# Altium schematic symbol library WOLF-Adapter.SCHLIB: 139 symbols
Pins are listed as number, name and electrical type; pins without a type are passive.

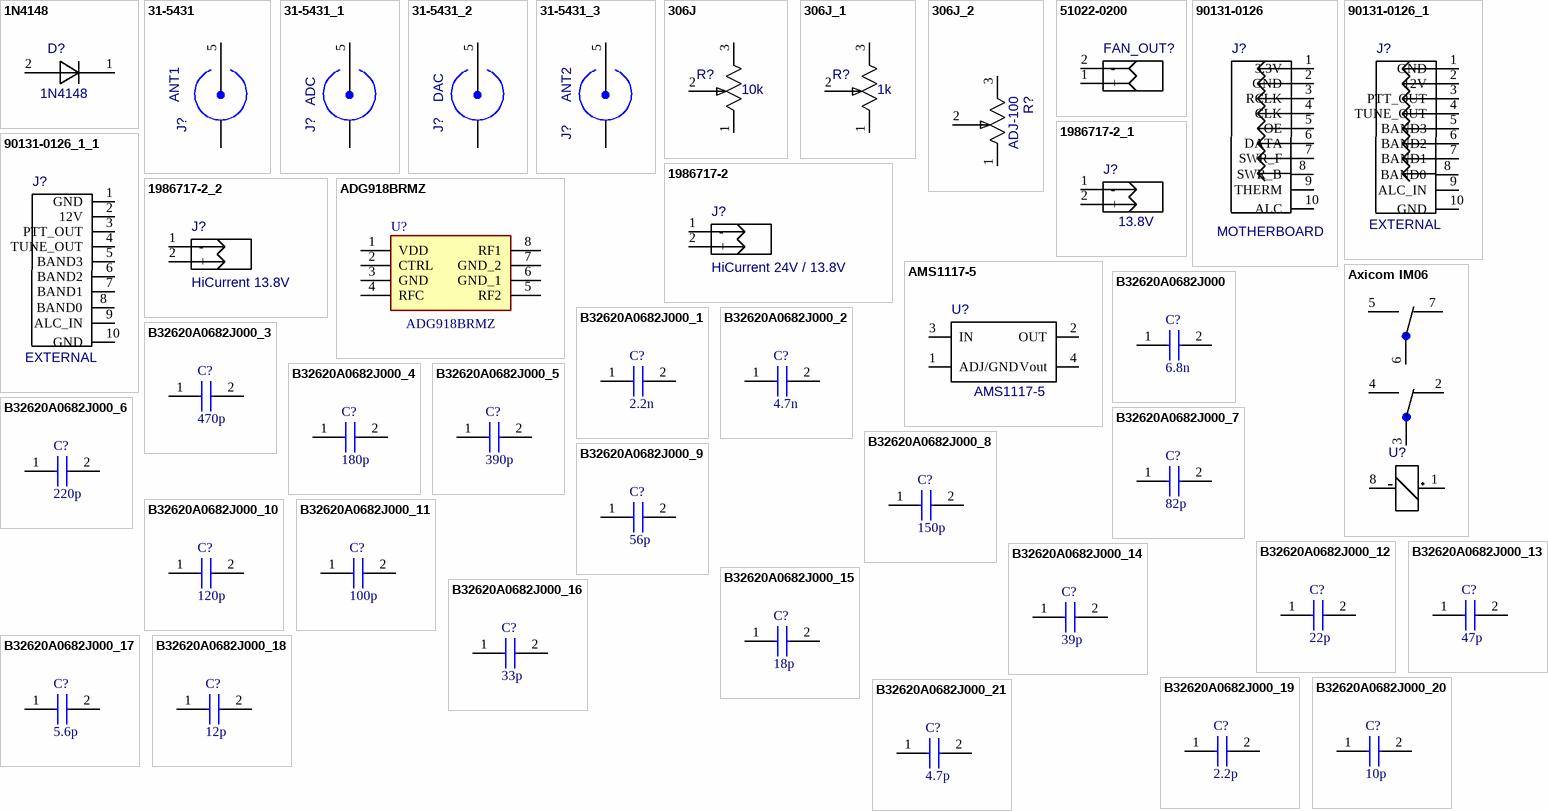
[diagram p0: symbols 1N4148 to B32620A0682J000_21]

## 1N4148
designator D?
Value: *
footprint SS14
pins: 1 K, 2 A

## 31-5431
designator J?, comment ANT1
SMA
footprint 1053354-1
footprint 31-5431
pins: 1 GND, 2 GND, 3 GND, 4 GND, 5 CON

## 31-5431_1
designator J?, comment ADC
SMA; Value: ADC
footprint 1053354-1
footprint 31-5431
pins: 1 GND, 2 GND, 3 GND, 4 GND, 5 CON

## 31-5431_2
designator J?, comment DAC
SMA; Value: DAC
footprint 1053354-1
footprint 31-5431
pins: 1 GND, 2 GND, 3 GND, 4 GND, 5 CON

## 31-5431_3
designator J?, comment ANT2
SMA
footprint 1053354-1
footprint 31-5431
pins: 1 GND, 2 GND, 3 GND, 4 GND, 5 CON

## 306J
designator R?, comment value 10k  (hidden comment: ADJ-10k)
306J
footprint 306J
pins: 1 CCW, 2 W, 3 CW

## 306J_1
designator R?, comment value 1k  (hidden comment: ADJ-1k)
306J
footprint 306J
pins: 1 CCW, 2 W, 3 CW

## 306J_2
designator R?, comment ADJ-100
306J
footprint 306J
pins: 1 CCW, 2 W, 3 CW

## 51022-0200
designator FAN_OUT?  (value not drawn)
footprint HDR-1x2T/2.54/5x2
footprint 51022-0200
pins: 1 +, 2 -

## 90131-0126
designator J?, comment MOTHERBOARD
2*5 PIN; Value: *
footprint 90131-0126
pins: 1 3.3V, 2 GND, 3 RCLK, 4 CLK, 5 OE, 6 DATA, 7 SWR_F, 8 SWR_B, 9 THERM, 10 ALC

## 90131-0126_1
designator J?, comment EXTERNAL
2*5 PIN; Value: *
footprint 90131-0126
pins: 1 GND, 2 12V, 3 PTT_OUT, 4 TUNE_OUT, 5 BAND3, 6 BAND2, 7 BAND1, 8 BAND0, 9 ALC_IN, 10 GND

## 90131-0126_1_1
designator J?, comment EXTERNAL
2*5 PIN; Value: *
footprint 90131-0126
pins: 1 GND, 2 12V, 3 PTT_OUT, 4 TUNE_OUT, 5 BAND3, 6 BAND2, 7 BAND1, 8 BAND0, 9 ALC_IN, 10 GND

## 1986717-2
designator J?, comment HiCurrent 24V / 13.8V
JX2
footprint TBH-1x2/3.81/8x3
footprint 1986717-2
pins: 1 -, 2 +

## 1986717-2_1
designator J?, comment value 13.8V  (hidden comment: JX2)
footprint TBH-1x2/3.81/8x3
footprint 1986717-2
pins: 1 -, 2 +

## 1986717-2_2
designator J?, comment HiCurrent 13.8V
JX2
footprint TBH-1x2/3.81/8x3
footprint 1986717-2
pins: 1 -, 2 +

## ADG918BRMZ
designator U?
Integrated Circuit; Manufacturer_Name: Analog Devices; Datasheet Link: http://www.analog.com/static/imported-files/data_sheets/ADG918_919.pdf; Height: 1.1mm; Manufacturer_Part_Number: ADG918BRMZ; Mouser Part Number: 584-ADG918BRMZ; Mouser Price/Stock: https://www.mouser.co.uk/ProductDetail/Analog-Devices/ADG918BRMZ?qs=BpaRKvA4VqHrp1TCwMhfnw%3D%3D; RS Part Number: 4969212P; RS Price/Stock: http://uk.rs-online.com/web/p/products/4969212P
footprint SOP65P490X110-8N
pins: 1 VDD (power), 2 CTRL, 3 GND (power), 4 RFC, 5 RF2, 6 GND_1 (power), 7 GND_2 (power), 8 RF1

## AMS1117-5
designator U?
Value: AMS1117-5
footprint SOT223-4
footprint AMS1117-5
pins: 1 ADJ/GND, 2 OUT, 3 IN, 4 Vout

## Axicom IM06
designator U?  (value not drawn)
Value: *
footprint IM06GR
pins: 1 +, 2 O, 3 P, 4 S, 5 S, 6 P, 7 O, 8 -

## B32620A0682J000
designator C?, comment 6.8n
Capacitor; Manufacturer_Name: TDK; Manufacturer_Part_Number: B32620A0682J000; Datasheet Link: https://www.tdk-electronics.tdk.com/inf/20/20/db/fc_2009/MKP_B32620_621.pdf; Height: 12mm; Mouser Part Number: 871-B32620A682J; Mouser Price/Stock: https://www.mouser.com/Search/Refine.aspx?Keyword=871-B32620A682J
footprint B32620A0682J000
pins: 1, 2

## B32620A0682J000_1
designator C?, comment 2.2n
Capacitor; Manufacturer_Name: TDK; Manufacturer_Part_Number: B32620A0682J000; Datasheet Link: https://www.tdk-electronics.tdk.com/inf/20/20/db/fc_2009/MKP_B32620_621.pdf; Height: 12mm; Mouser Part Number: 871-B32620A682J; Mouser Price/Stock: https://www.mouser.com/Search/Refine.aspx?Keyword=871-B32620A682J
footprint B32620A0682J000
pins: 1, 2

## B32620A0682J000_2
designator C?, comment 4.7n
Capacitor; Manufacturer_Name: TDK; Manufacturer_Part_Number: B32620A0682J000; Datasheet Link: https://www.tdk-electronics.tdk.com/inf/20/20/db/fc_2009/MKP_B32620_621.pdf; Height: 12mm; Mouser Part Number: 871-B32620A682J; Mouser Price/Stock: https://www.mouser.com/Search/Refine.aspx?Keyword=871-B32620A682J
footprint B32620A0682J000
pins: 1, 2

## B32620A0682J000_3
designator C?, comment 470p
Capacitor; Manufacturer_Name: TDK; Manufacturer_Part_Number: B32620A0682J000; Datasheet Link: https://www.tdk-electronics.tdk.com/inf/20/20/db/fc_2009/MKP_B32620_621.pdf; Height: 12mm; Mouser Part Number: 871-B32620A682J; Mouser Price/Stock: https://www.mouser.com/Search/Refine.aspx?Keyword=871-B32620A682J
footprint B32620A0682J000
pins: 1, 2

## B32620A0682J000_4
designator C?, comment 180p
Capacitor; Manufacturer_Name: TDK; Manufacturer_Part_Number: B32620A0682J000; Datasheet Link: https://www.tdk-electronics.tdk.com/inf/20/20/db/fc_2009/MKP_B32620_621.pdf; Height: 12mm; Mouser Part Number: 871-B32620A682J; Mouser Price/Stock: https://www.mouser.com/Search/Refine.aspx?Keyword=871-B32620A682J
footprint B32620A0682J000
pins: 1, 2

## B32620A0682J000_5
designator C?, comment 390p
Capacitor; Manufacturer_Name: TDK; Manufacturer_Part_Number: B32620A0682J000; Datasheet Link: https://www.tdk-electronics.tdk.com/inf/20/20/db/fc_2009/MKP_B32620_621.pdf; Height: 12mm; Mouser Part Number: 871-B32620A682J; Mouser Price/Stock: https://www.mouser.com/Search/Refine.aspx?Keyword=871-B32620A682J
footprint B32620A0682J000
pins: 1, 2

## B32620A0682J000_6
designator C?, comment 220p
Capacitor; Manufacturer_Name: TDK; Manufacturer_Part_Number: B32620A0682J000; Datasheet Link: https://www.tdk-electronics.tdk.com/inf/20/20/db/fc_2009/MKP_B32620_621.pdf; Height: 12mm; Mouser Part Number: 871-B32620A682J; Mouser Price/Stock: https://www.mouser.com/Search/Refine.aspx?Keyword=871-B32620A682J
footprint B32620A0682J000
pins: 1, 2

## B32620A0682J000_7
designator C?, comment 82p
Capacitor; Manufacturer_Name: TDK; Manufacturer_Part_Number: B32620A0682J000; Datasheet Link: https://www.tdk-electronics.tdk.com/inf/20/20/db/fc_2009/MKP_B32620_621.pdf; Height: 12mm; Mouser Part Number: 871-B32620A682J; Mouser Price/Stock: https://www.mouser.com/Search/Refine.aspx?Keyword=871-B32620A682J
footprint B32620A0682J000
pins: 1, 2

## B32620A0682J000_8
designator C?, comment 150p
Capacitor; Manufacturer_Name: TDK; Manufacturer_Part_Number: B32620A0682J000; Datasheet Link: https://www.tdk-electronics.tdk.com/inf/20/20/db/fc_2009/MKP_B32620_621.pdf; Height: 12mm; Mouser Part Number: 871-B32620A682J; Mouser Price/Stock: https://www.mouser.com/Search/Refine.aspx?Keyword=871-B32620A682J
footprint B32620A0682J000
pins: 1, 2

## B32620A0682J000_9
designator C?, comment 56p
Capacitor; Manufacturer_Name: TDK; Manufacturer_Part_Number: B32620A0682J000; Datasheet Link: https://www.tdk-electronics.tdk.com/inf/20/20/db/fc_2009/MKP_B32620_621.pdf; Height: 12mm; Mouser Part Number: 871-B32620A682J; Mouser Price/Stock: https://www.mouser.com/Search/Refine.aspx?Keyword=871-B32620A682J
footprint B32620A0682J000
pins: 1, 2

## B32620A0682J000_10
designator C?, comment 120p
Capacitor; Manufacturer_Name: TDK; Manufacturer_Part_Number: B32620A0682J000; Datasheet Link: https://www.tdk-electronics.tdk.com/inf/20/20/db/fc_2009/MKP_B32620_621.pdf; Height: 12mm; Mouser Part Number: 871-B32620A682J; Mouser Price/Stock: https://www.mouser.com/Search/Refine.aspx?Keyword=871-B32620A682J
footprint B32620A0682J000
pins: 1, 2

## B32620A0682J000_11
designator C?, comment 100p
Capacitor; Manufacturer_Name: TDK; Manufacturer_Part_Number: B32620A0682J000; Datasheet Link: https://www.tdk-electronics.tdk.com/inf/20/20/db/fc_2009/MKP_B32620_621.pdf; Height: 12mm; Mouser Part Number: 871-B32620A682J; Mouser Price/Stock: https://www.mouser.com/Search/Refine.aspx?Keyword=871-B32620A682J
footprint B32620A0682J000
pins: 1, 2

## B32620A0682J000_12
designator C?, comment 22p
Capacitor; Manufacturer_Name: TDK; Manufacturer_Part_Number: B32620A0682J000; Datasheet Link: https://www.tdk-electronics.tdk.com/inf/20/20/db/fc_2009/MKP_B32620_621.pdf; Height: 12mm; Mouser Part Number: 871-B32620A682J; Mouser Price/Stock: https://www.mouser.com/Search/Refine.aspx?Keyword=871-B32620A682J
footprint B32620A0682J000
pins: 1, 2

## B32620A0682J000_13
designator C?, comment 47p
Capacitor; Manufacturer_Name: TDK; Manufacturer_Part_Number: B32620A0682J000; Datasheet Link: https://www.tdk-electronics.tdk.com/inf/20/20/db/fc_2009/MKP_B32620_621.pdf; Height: 12mm; Mouser Part Number: 871-B32620A682J; Mouser Price/Stock: https://www.mouser.com/Search/Refine.aspx?Keyword=871-B32620A682J
footprint B32620A0682J000
pins: 1, 2

## B32620A0682J000_14
designator C?, comment 39p
Capacitor; Manufacturer_Name: TDK; Manufacturer_Part_Number: B32620A0682J000; Datasheet Link: https://www.tdk-electronics.tdk.com/inf/20/20/db/fc_2009/MKP_B32620_621.pdf; Height: 12mm; Mouser Part Number: 871-B32620A682J; Mouser Price/Stock: https://www.mouser.com/Search/Refine.aspx?Keyword=871-B32620A682J
footprint B32620A0682J000
pins: 1, 2

## B32620A0682J000_15
designator C?, comment 18p
Capacitor; Manufacturer_Name: TDK; Manufacturer_Part_Number: B32620A0682J000; Datasheet Link: https://www.tdk-electronics.tdk.com/inf/20/20/db/fc_2009/MKP_B32620_621.pdf; Height: 12mm; Mouser Part Number: 871-B32620A682J; Mouser Price/Stock: https://www.mouser.com/Search/Refine.aspx?Keyword=871-B32620A682J
footprint B32620A0682J000
pins: 1, 2

## B32620A0682J000_16
designator C?, comment 33p
Capacitor; Manufacturer_Name: TDK; Manufacturer_Part_Number: B32620A0682J000; Datasheet Link: https://www.tdk-electronics.tdk.com/inf/20/20/db/fc_2009/MKP_B32620_621.pdf; Height: 12mm; Mouser Part Number: 871-B32620A682J; Mouser Price/Stock: https://www.mouser.com/Search/Refine.aspx?Keyword=871-B32620A682J
footprint B32620A0682J000
pins: 1, 2

## B32620A0682J000_17
designator C?, comment 5.6p
Capacitor; Manufacturer_Name: TDK; Manufacturer_Part_Number: B32620A0682J000; Datasheet Link: https://www.tdk-electronics.tdk.com/inf/20/20/db/fc_2009/MKP_B32620_621.pdf; Height: 12mm; Mouser Part Number: 871-B32620A682J; Mouser Price/Stock: https://www.mouser.com/Search/Refine.aspx?Keyword=871-B32620A682J
footprint B32620A0682J000
pins: 1, 2

## B32620A0682J000_18
designator C?, comment 12p
Capacitor; Manufacturer_Name: TDK; Manufacturer_Part_Number: B32620A0682J000; Datasheet Link: https://www.tdk-electronics.tdk.com/inf/20/20/db/fc_2009/MKP_B32620_621.pdf; Height: 12mm; Mouser Part Number: 871-B32620A682J; Mouser Price/Stock: https://www.mouser.com/Search/Refine.aspx?Keyword=871-B32620A682J
footprint B32620A0682J000
pins: 1, 2

## B32620A0682J000_19
designator C?, comment 2.2p
Capacitor; Manufacturer_Name: TDK; Manufacturer_Part_Number: B32620A0682J000; Datasheet Link: https://www.tdk-electronics.tdk.com/inf/20/20/db/fc_2009/MKP_B32620_621.pdf; Height: 12mm; Mouser Part Number: 871-B32620A682J; Mouser Price/Stock: https://www.mouser.com/Search/Refine.aspx?Keyword=871-B32620A682J
footprint B32620A0682J000
pins: 1, 2

## B32620A0682J000_20
designator C?, comment 10p
Capacitor; Manufacturer_Name: TDK; Manufacturer_Part_Number: B32620A0682J000; Datasheet Link: https://www.tdk-electronics.tdk.com/inf/20/20/db/fc_2009/MKP_B32620_621.pdf; Height: 12mm; Mouser Part Number: 871-B32620A682J; Mouser Price/Stock: https://www.mouser.com/Search/Refine.aspx?Keyword=871-B32620A682J
footprint B32620A0682J000
pins: 1, 2

## B32620A0682J000_21
designator C?, comment 4.7p
Capacitor; Manufacturer_Name: TDK; Manufacturer_Part_Number: B32620A0682J000; Datasheet Link: https://www.tdk-electronics.tdk.com/inf/20/20/db/fc_2009/MKP_B32620_621.pdf; Height: 12mm; Mouser Part Number: 871-B32620A682J; Mouser Price/Stock: https://www.mouser.com/Search/Refine.aspx?Keyword=871-B32620A682J
footprint B32620A0682J000
pins: 1, 2

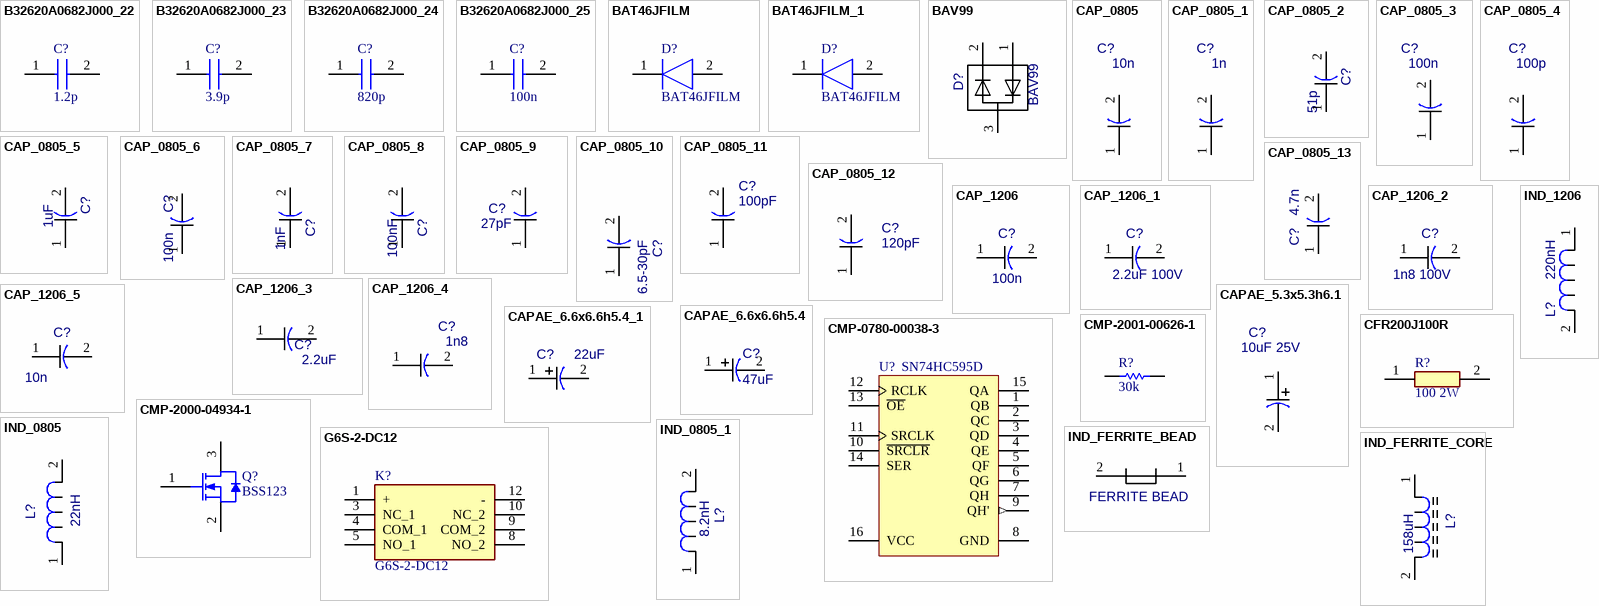
[diagram p1: symbols B32620A0682J000_22 to IND_FERRITE_CORE]

## B32620A0682J000_22
designator C?, comment 1.2p
Capacitor; Manufacturer_Name: TDK; Manufacturer_Part_Number: B32620A0682J000; Datasheet Link: https://www.tdk-electronics.tdk.com/inf/20/20/db/fc_2009/MKP_B32620_621.pdf; Height: 12mm; Mouser Part Number: 871-B32620A682J; Mouser Price/Stock: https://www.mouser.com/Search/Refine.aspx?Keyword=871-B32620A682J
footprint B32620A0682J000
pins: 1, 2

## B32620A0682J000_23
designator C?, comment 3.9p
Capacitor; Manufacturer_Name: TDK; Manufacturer_Part_Number: B32620A0682J000; Datasheet Link: https://www.tdk-electronics.tdk.com/inf/20/20/db/fc_2009/MKP_B32620_621.pdf; Height: 12mm; Mouser Part Number: 871-B32620A682J; Mouser Price/Stock: https://www.mouser.com/Search/Refine.aspx?Keyword=871-B32620A682J
footprint B32620A0682J000
pins: 1, 2

## B32620A0682J000_24
designator C?, comment 820p
Capacitor; Manufacturer_Name: TDK; Manufacturer_Part_Number: B32620A0682J000; Datasheet Link: https://www.tdk-electronics.tdk.com/inf/20/20/db/fc_2009/MKP_B32620_621.pdf; Height: 12mm; Mouser Part Number: 871-B32620A682J; Mouser Price/Stock: https://www.mouser.com/Search/Refine.aspx?Keyword=871-B32620A682J
footprint B32620A0682J000
pins: 1, 2

## B32620A0682J000_25
designator C?, comment 100n
Capacitor; Manufacturer_Name: TDK; Manufacturer_Part_Number: B32620A0682J000; Datasheet Link: https://www.tdk-electronics.tdk.com/inf/20/20/db/fc_2009/MKP_B32620_621.pdf; Height: 12mm; Mouser Part Number: 871-B32620A682J; Mouser Price/Stock: https://www.mouser.com/Search/Refine.aspx?Keyword=871-B32620A682J
footprint B32620A0682J000
pins: 1, 2

## BAT46JFILM
designator D?
Diode; Manufacturer_Name: STMicroelectronics; Allied_Number: 70389791; Datasheet Link: http://www.st.com/web/en/resource/technical/document/datasheet/CD00004930.pdf; Height: 1.17mm; Manufacturer_Part_Number: BAT46JFILM; Mouser Part Number: 511-BAT46JFILM; Mouser Price/Stock: https://www.mouser.co.uk/ProductDetail/STMicroelectronics/BAT46JFILM?qs=69%252BgXnvv5lrVjJqgcSQKbQ%3D%3D; RS Part Number: 7146847P; RS Price/Stock: http://uk.rs-online.com/web/p/products/7146847P; Allied Price/Stock: http://www.alliedelec.com/stmicroelectronics-bat46jfilm/70389791/
footprint SOD2513X117N
pins: 1 K, 2 A

## BAT46JFILM_1
designator D?, comment BAT46JFILM
Diode; Manufacturer_Name: STMicroelectronics; Allied_Number: 70389791; Datasheet Link: http://www.st.com/web/en/resource/technical/document/datasheet/CD00004930.pdf; Height: 1.17mm; Manufacturer_Part_Number: BAT46JFILM; Mouser Part Number: 511-BAT46JFILM; Mouser Price/Stock: https://www.mouser.co.uk/ProductDetail/STMicroelectronics/BAT46JFILM?qs=69%252BgXnvv5lrVjJqgcSQKbQ%3D%3D; RS Part Number: 7146847P; RS Price/Stock: http://uk.rs-online.com/web/p/products/7146847P; Allied Price/Stock: http://www.alliedelec.com/stmicroelectronics-bat46jfilm/70389791/
footprint SOD2513X117N
pins: 1 K, 2 A

## BAV99
designator D?
Value: BAV99
footprint SOT23
pins: 1 A(D1), 2 C(D2), 3 C(D1),A(D2)

## CAP_0805
designator C?, comment 10n
CAP_0805; Value: 10n
footprint 6-0805_M (Chip Resistor, Body 2.0x1.2mm, IPC Low Density)
pins: 1, 2

## CAP_0805_1
designator C?, comment 1n
CAP_0805; Value: 1n
footprint 6-0805_M (Chip Resistor, Body 2.0x1.2mm, IPC Low Density)
pins: 1, 2

## CAP_0805_2
designator C?, comment 51p
CAP_0805
footprint CAP_0805
pins: 1, 2

## CAP_0805_3
designator C?, comment 100n
CAP_0805; Value: 100n
footprint CAP_0805
pins: 1, 2

## CAP_0805_4
designator C?, comment 100p
CAP_0805; Value: 100p
footprint 6-0805_M (Chip Resistor, Body 2.0x1.2mm, IPC Low Density)
pins: 1, 2

## CAP_0805_5
designator C?, comment 1uF
CAP_0805; Value: 1uF
footprint CAP_0805
pins: 1, 2

## CAP_0805_6
designator C?, comment 100n
CAP_0805
footprint CAP_0805
pins: 1, 2

## CAP_0805_7
designator C?, comment 1nF
CAP_0805; Value: 1nF
footprint CAP_0805
pins: 1, 2

## CAP_0805_8
designator C?, comment 100nF
CAP_0805; Value: 100nF
footprint CAP_0805
pins: 1, 2

## CAP_0805_9
designator C?, comment 27pF
CAP_0805
footprint CAP_0805
pins: 1, 2

## CAP_0805_10
designator C?, comment 6.5-30pF
TZC3P300A110; Value: 6.5-30pF
footprint CAP_1206
footprint 5025[2010]
pins: 1, 2

## CAP_0805_11
designator C?, comment 100pF
CAP_0805; Value: 100pF
footprint CAP_0805
pins: 1, 2

## CAP_0805_12
designator C?, comment 120pF
CAP_0805; Value: 120pF
footprint CAP_0805
pins: 1, 2

## CAP_0805_13
designator C?, comment 4.7n
CAP_0805
footprint CAP_0805
pins: 1, 2

## CAP_1206
designator C?, comment 100n
CAP_1206
footprint CAP_1206
pins: 1, 2

## CAP_1206_1
designator C?, comment 2.2uF 100V
CAP_1206; Value: 2.2uF 100V
footprint CAP_1206
pins: 1, 2

## CAP_1206_2
designator C?, comment 1n8 100V
CAP_1206; Value: 1n8 100V
footprint CAP_1206
pins: 1, 2

## CAP_1206_3
designator C?, comment 2.2uF
CAP_1206
footprint CAP_1206
pins: 1, 2

## CAP_1206_4
designator C?, comment 1n8
CAP_1206
footprint CAP_1206
pins: 1, 2

## CAP_1206_5
designator C?, comment 10n
CAP_1206
footprint CAP_1206
pins: 1, 2

## CAPAE_5.3x5.3h6.1
designator C?, comment 10uF 25V
CAPAE_5.3x5.3h6.1; Value: 10uF 25V
footprint TC_2413
footprint CAPAE_5.3x5.3h6.1
pins: 1 PLUS, 2 MINUS

## CAPAE_6.6x6.6h5.4
designator C?, comment 47uF
CAPAE_6.6x6.6h5.4; Value: 47uF
footprint CAPAE-6.6x6.6h5.4
footprint CAPAE_6.6x6.6h5.4
pins: 1 PLUS, 2 MINUS

## CAPAE_6.6x6.6h5.4_1
designator C?, comment 22uF
CAPAE_6.6x6.6h5.4
footprint CAPAE-6.6x6.6h5.4
footprint CAPAE_6.6x6.6h5.4
pins: 1 PLUS, 2 MINUS

## CFR200J100R
designator R?, comment 100 2W
CFR200J100R; Manufacturer_Name: TE Connectivity; Datasheet Link: http://www.te.com/commerce/DocumentDelivery/DDEController?Action=showdoc&DocId=Data+Sheet%7F1773195%7FE%7Fpdf%7FEnglish%7FENG_DS_1773195_E.pdf%7F1623929-2; Manufacturer_Part_Number: CFR200J100R; Mouser Part Number: 279-CFR200J100R; Mouser Price/Stock: https://www.mouser.com/Search/Refine.aspx?Keyword=279-CFR200J100R; Arrow Part Number: CFR200J100R; Arrow Price/Stock: https://www.arrow.com/en/products/cfr200j100r/te-connectivity
footprint RES-2W
pins: 1, 2

## CMP-0780-00038-3
designator U?, comment SN74HC595D
8-Bit Shift Registers With 3-State Output Registers, D0016A, TUBE; Manufacturer: Texas Instruments; Bits: 8; F @ Nom Voltage(Max)(Mhz): 28; Voltage(Nom)(V): 6; ICC @ Nom Voltage(Max)(mA): 0.08; Output Drive (IOL/IOH)(Max)(mA): 7.8/-7.8; tpd @ Nom Voltage(Max)(ns): 34; 3-State Output: Yes; VCC(Min)(V): 2; Output Type: CMOS; Technology Family: HC; Rating: Military; Generic Part Number: SN74HC595; PackageReference: D0016A; Code_JEDEC: MS-012 variation AC; Operating Temperature Range(C): -40 to 85; VCC(Max)(V): 6; DatasheetVersion: SCLS041H; Input Type: CMOS; PackageVersion: http://www.ti.com/lit/ml/mpds178g/mpds178g.pdf; Manufacturer Part Number: SN74HC595D
footprint D0016A_L (SOIC, 16-Leads, Body 10x4mm, Pitch 1.27mm, IPC High Density)
footprint D0016A_M (SOIC, 16-Leads, Body 10x4mm, Pitch 1.27mm, IPC Low Density)
footprint D0016A_N (SOIC, 16-Leads, Body 10x4mm, Pitch 1.27mm, IPC Medium Density)
pins: 1 QB (hiz) "QB Output", 2 QC (hiz) "QC Output", 3 QD (hiz) "QD Output", 4 QE (hiz) "QE Output", 5 QF (hiz) "QF Output", 6 QG (hiz) "QG Output", 7 QH (hiz) "QH Output", 8 GND (power) "Ground Pin", 9 QH' (out) "QH' Output", 10 ~{SRCLR} "S\R\C\L\R\ Input", 11 SRCLK "SRCLK Input", 12 RCLK "RCLK Input", 13 ~{OE} "Output Enable Pin", 14 SER "SER Input", 15 QA (hiz) "QA Output", 16 VCC (power) "Power Pin"

## CMP-2000-04934-1
designator Q?, comment BSS123
N-Channel Logic Level Enhancement Mode Field Effect Transistor, 1.7 V, -55 to 150 degC, 3-Pin SOT-23, RoHS, Tape and Reel; Manufacturer: Fairchild; Manufacturer: ON Semiconductor / Fairchild; Channel Type: N; Typical Turn-Off Delay Time: 17ns; Maximum Continuous Drain Current: 0.17A; Rad Hard: No; Typical Rise Time: 9ns; Typical Fall Time: 2.4ns; Maximum Gate Source Voltage: ±20V; Maximum Drain Source Voltage: 100V; Typical Turn-On Delay Time: 1.7ns; RDS-on: 6000@10VmOhm; Package Version: Rev. 12, 03/2016; Packaging: Tape&Reel; Package Reference: SOT23-3; Channel Mode: Enhancement; Operating Temperature: -55to150degC; Package Description: 3-Pin Small Outline Transistor, Body 2.92 x 1.325 mm, Pitch 0.95 mm; Category: MOSFET; Datasheet Version: Jun-03; Datasheet URL: https://www.fairchildsemi.com/datasheets/BS/BSS123.pdf; Manufacturer URL: https://www.fairchildsemi.com/; Mounting: SurfaceMount; Package: 3SOT-23; Package URL: http://www.fairchildsemi.com/dwg/MA/MA03D.pdf; Manufacturer Part Number: BSS123
footprint FAIR-SOT23-3_V (SOT23, 3-Leads, Body 2.92x1.3mm, Pitch 0.95mm)
pins: 1 G, 2 S, 3 D

## CMP-2001-00626-1
designator R?, comment 30k
RES_0805; Manufacturer: Panasonic; Part Number: ERA-6AEB303V; Manufacturer Part Number: ERA-6AEB303V
footprint RESC2013X60X40NL20T25 (Chip Resistor, 2-Leads, Body 2.00x1.25mm, IPC Medium Density)
footprint RESC2013X60X40LL20T25 (Chip Resistor, 2-Leads, Body 2.00x1.25mm, IPC High Density)
footprint RESC2013X60X40ML20T25 (Chip Resistor, 2-Leads, Body 2.00x1.25mm, IPC Low Density)
pins: 1, 2
1 alternate drawing of the same symbol

## G6S-2-DC12
designator K?
Relay or Contactor; Manufacturer_Name: Omron Electronics; Datasheet Link: https://componentsearchengine.com/Datasheets/1/G6S-2-DC12.pdf; Height: 9.4mm; Manufacturer_Part_Number: G6S-2-DC12; Mouser Part Number: 653-G6S-2-DC12A; Mouser Price/Stock: https://www.mouser.co.uk/ProductDetail/Omron-Electronics/G6S-2-DC12/?qs=QGk6feVlqMLN9Ouv0QsFzA%3D%3D
footprint G6S2DC12
pins: 1 +, 3 NC_1, 4 COM_1, 5 NO_1, 8 NO_2, 9 COM_2, 10 NC_2, 12 -

## IND_0805
designator L?, comment 22nH
IND_0805
footprint IND_0805
pins: 1, 2

## IND_0805_1
designator L?, comment 8.2nH
IND_0805; Value: 8.2nH
footprint IND_0805
pins: 1, 2

## IND_1206
designator L?, comment 220nH
IND_1206; Value: 220nH
footprint IND_1206
pins: 1 2, 2 1

## IND_FERRITE_BEAD
designator F?, comment FERRITE BEAD
IND_FERRITE_BEAD; Value: *
footprint RES
pins: 1, 2

## IND_FERRITE_CORE
designator L?, comment 158uH
Inductor
footprint B82464Z4
footprint IND_FERRITE_CORE_1
pins: 1 A, 2 B

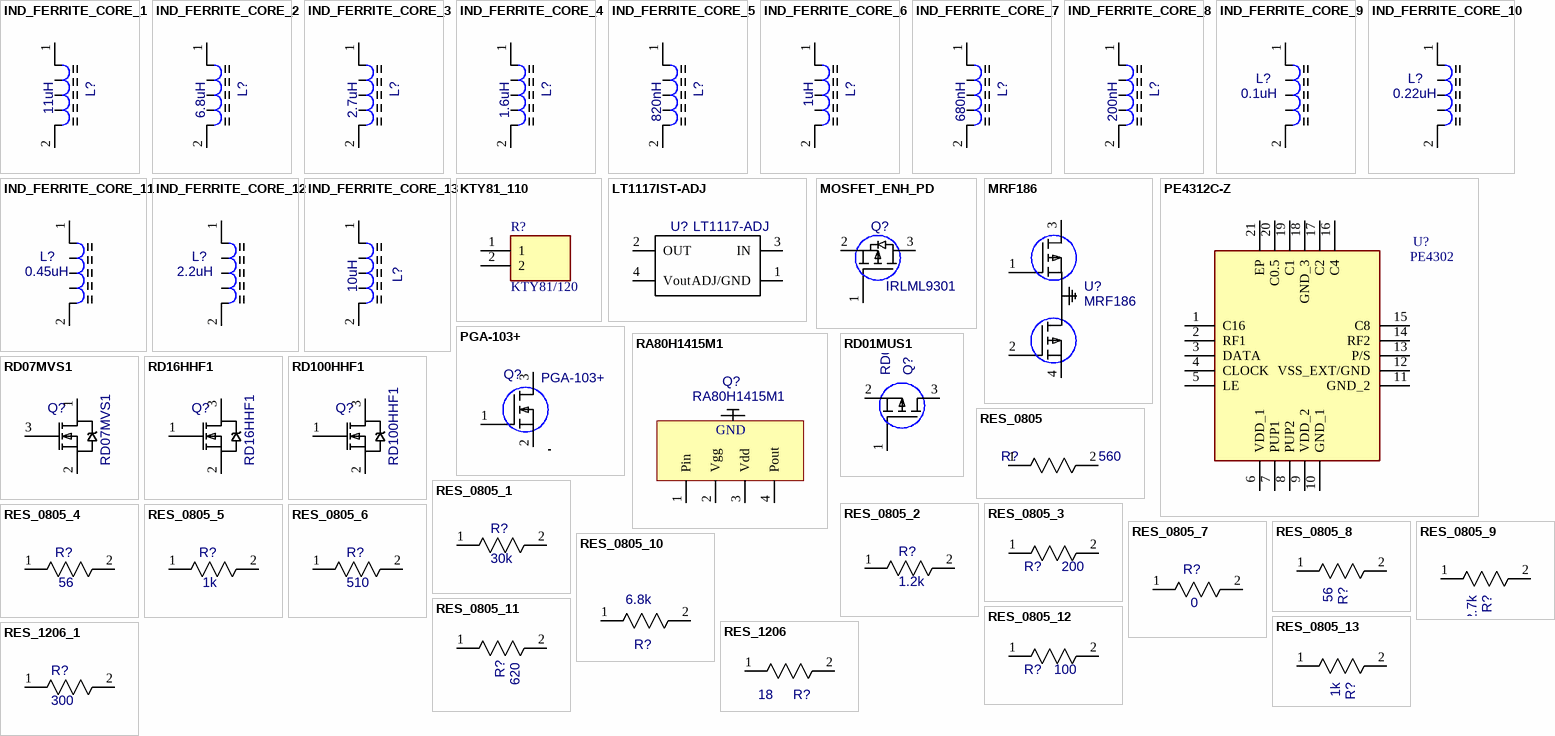
[diagram p2: symbols IND_FERRITE_CORE_1 to RES_1206_1]

## IND_FERRITE_CORE_1
designator L?, comment 11uH
Inductor
footprint B82464Z4
footprint IND_FERRITE_CORE_1
pins: 1 A, 2 B

## IND_FERRITE_CORE_2
designator L?, comment 6.8uH
Inductor
footprint B82464Z4
footprint IND_FERRITE_CORE_1
pins: 1 A, 2 B

## IND_FERRITE_CORE_3
designator L?, comment 2.7uH
Inductor
footprint B82464Z4
footprint IND_FERRITE_CORE_1
pins: 1 A, 2 B

## IND_FERRITE_CORE_4
designator L?, comment 1.6uH
Inductor
footprint B82464Z4
footprint IND_FERRITE_CORE_1
pins: 1 A, 2 B

## IND_FERRITE_CORE_5
designator L?, comment 820nH
Inductor
footprint B82464Z4
footprint IND_FERRITE_CORE_1
pins: 1 A, 2 B

## IND_FERRITE_CORE_6
designator L?, comment 1uH
Inductor
footprint B82464Z4
footprint IND_FERRITE_CORE_1
pins: 1 A, 2 B

## IND_FERRITE_CORE_7
designator L?, comment 680nH
Inductor
footprint B82464Z4
footprint IND_FERRITE_CORE_1
pins: 1 A, 2 B

## IND_FERRITE_CORE_8
designator L?, comment 200nH
Inductor
footprint B82464Z4
footprint IND_FERRITE_CORE_1
pins: 1 A, 2 B

## IND_FERRITE_CORE_9
designator L?, comment 0.1uH
Inductor
footprint B82464Z4
footprint IND_FERRITE_CORE_1
pins: 1 A, 2 B

## IND_FERRITE_CORE_10
designator L?, comment 0.22uH
Inductor
footprint B82464Z4
footprint IND_FERRITE_CORE_1
pins: 1 A, 2 B

## IND_FERRITE_CORE_11
designator L?, comment 0.45uH
Inductor
footprint B82464Z4
footprint IND_FERRITE_CORE_1
pins: 1 A, 2 B

## IND_FERRITE_CORE_12
designator L?, comment 2.2uH
Inductor
footprint B82464Z4
footprint IND_FERRITE_CORE_1
pins: 1 A, 2 B

## IND_FERRITE_CORE_13
designator L?, comment 10uH
Inductor; Value: 10uH
footprint B82464Z4
footprint IND_FERRITE_CORE
pins: 1 A, 2 B

## KTY81_110
designator R?, comment KTY81/120
Integrated Circuit; Manufacturer_Name: Nexperia; Manufacturer_Part_Number: KTY81/110; Datasheet Link: https://www.nxp.com/docs/en/data-sheet/KTY81_SER.pdf; Height: 4.2mm
footprint TO254P420X460X770-2P
pins: 1, 2

## LT1117IST-ADJ
designator U?  value LT1117-ADJ  (hidden comment: LT1117IST-ADJ)
footprint SOT223-4
footprint LT1117IST-ADJ
pins: 1 ADJ/GND, 2 OUT, 3 IN, 4 Vout

## MOSFET_ENH_PD
designator Q?, comment IRLML9301
MOSFET; Value: IRLML9301
footprint SOT23
pins: 1 G, 2 S, 3 D

## MRF186
designator U?
footprint MRF186
pins: 1 G1, 2 G2, 3 D1, 4 D2

## PE4312C-Z
designator U?, comment PE4302
Integrated Circuit; Manufacturer_Name: pSemi; Manufacturer_Part_Number: PE4312C-Z; Datasheet Link: https://www.psemi.com/pdf/datasheets/pe4312ds.pdf; Height: 0.9mm; Mouser Part Number: N/A; Mouser Price/Stock: https://www.mouser.com/Search/Refine.aspx?Keyword=N%2FA
footprint QFN50P400X400X90-21N
pins: 1 C16, 2 RF1, 3 DATA, 4 CLOCK, 5 LE, 6 VDD_1, 7 PUP1, 8 PUP2, 9 VDD_2, 10 GND_1, 11 GND_2, 12 VSS_EXT/GND, 13 P/S, 14 RF2, 15 C8, 16 C4, 17 C2, 18 GND_3, 19 C1, 20 C0.5, 21 EP

## PGA-103+
designator Q?
MOSFET; Value: PGA-103+
footprint SOT89
pins: 0, 1 G, 2 S, 3 D

## RA80H1415M1
designator Q?
Value: *
footprint RA80H1415M1
pins: 1 Pin, 2 Vgg, 3 Vdd, 4 Pout
text: GND

## RD01MUS1
designator Q?
Value: *
footprint SOT89 (SOT-89; Body 4.6 x 4.25 mm, inc. leads (LxW max))
pins: 1 G, 2 S, 3 D

## RD07MVS1
designator Q?
Value: RD07MVS1
footprint RD07MVS1
pins: 1 D, 2 S, 3 G

## RD16HHF1
designator Q?
Value: RD16HHF1
footprint RD16_V2
pins: 1 G, 2 S, 3 D

## RD100HHF1
designator Q?
Value: RD100HHF1
footprint RD100_V2
pins: 1 G, 2 S, 3 D

## RES_0805
designator R?, comment 560
RES_0805; Value: 560
footprint RES_0805
pins: 1, 2

## RES_0805_1
designator R?, comment 30k
RES_0805; Value: 30k
footprint RES_0805
pins: 1, 2

## RES_0805_2
designator R?, comment 1.2k
RES_0805; Value: 1.2k
footprint RES_0805
pins: 1, 2

## RES_0805_3
designator R?, comment 200
RES_0805; Value: 200
footprint RES_0805
pins: 1, 2

## RES_0805_4
designator R?, comment 56
RES_0805; Value: 56
footprint RES_0805
pins: 1, 2

## RES_0805_5
designator R?, comment 1k
RES_0805; Value: 1k
footprint RES_0805
pins: 1, 2

## RES_0805_6
designator R?, comment 510
RES_0805; Value: 510
footprint RES_0805
pins: 1, 2

## RES_0805_7
designator R?, comment 0
RES_0805
footprint RES_0805
pins: 1, 2

## RES_0805_8
designator R?, comment 56
RES_0805
footprint RES_0805
pins: 1, 2

## RES_0805_9
designator R?, comment 2.7k
RES_0805
footprint RES_0805
pins: 1, 2

## RES_0805_10
designator R?, comment 6.8k
RES_0805
footprint RES_0805
pins: 1, 2

## RES_0805_11
designator R?, comment 620
RES_0805
footprint RES_0805
pins: 1, 2

## RES_0805_12
designator R?, comment 100
RES_0805
footprint RES_0805
pins: 1, 2

## RES_0805_13
designator R?, comment 1k
RES_0805
footprint RES_0805
pins: 1, 2

## RES_1206
designator R?, comment 18
RES_1206; Value: 18
footprint RES_1206
pins: 1, 2

## RES_1206_1
designator R?, comment 300
RES_1206; Value: 300
footprint RES_1206
pins: 1, 2

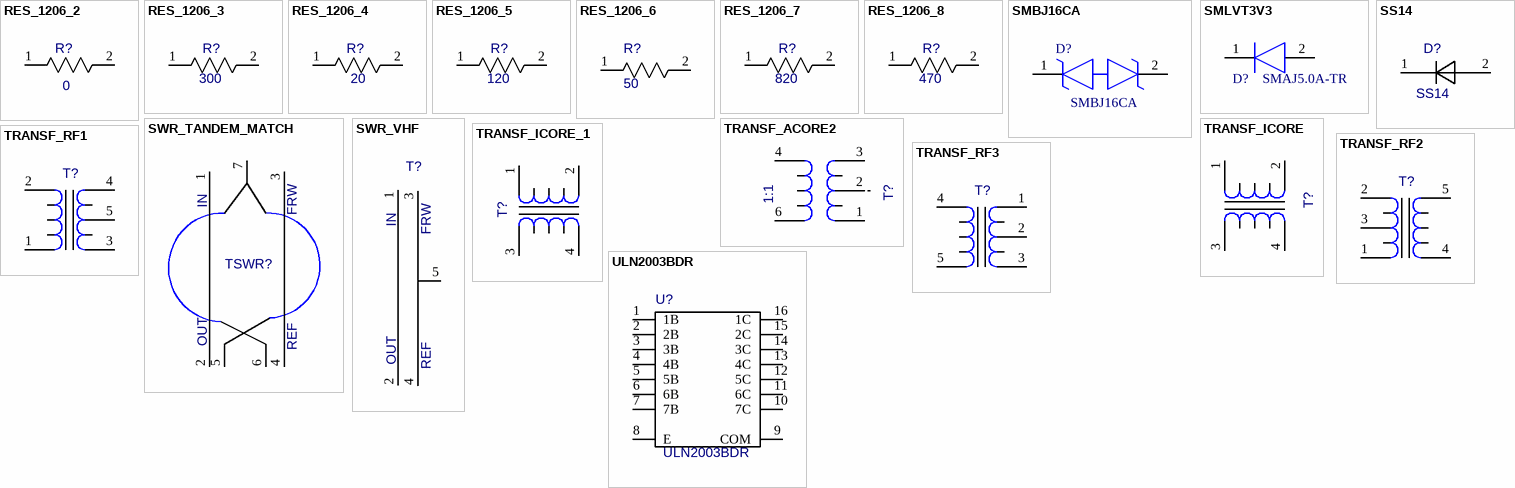
[diagram p3: symbols RES_1206_2 to ULN2003BDR]

## RES_1206_2
designator R?, comment 0
RES_1206
footprint RES_1206
pins: 1, 2

## RES_1206_3
designator R?, comment 300
RES_1206
footprint RES_1206
pins: 1, 2

## RES_1206_4
designator R?, comment 20
RES_1206
footprint RES_1206
pins: 1, 2

## RES_1206_5
designator R?, comment 120
RES_1206
footprint RES_1206
pins: 1, 2

## RES_1206_6
designator R?, comment 50
RES_1206
footprint RES_1206
pins: 1, 2

## RES_1206_7
designator R?, comment 820
RES_1206
footprint RES_1206
pins: 1, 2

## RES_1206_8
designator R?, comment 470
RES_1206
footprint RES_1206
pins: 1, 2

## SMBJ16CA
designator D?
TVS Diode (Bi-directional); Manufacturer_Name: Bourns; Datasheet Link: https://componentsearchengine.com/Datasheets/2/SMBJ16CA.pdf; Height: 2.61mm; Manufacturer_Part_Number: SMBJ16CA; Mouser Part Number: 652-SMBJ16CA; Mouser Price/Stock: https://www.mouser.co.uk/ProductDetail/Bourns/SMBJ16CA?qs=d7fLapxX37HIDtp0KgHIow%3D%3D; Arrow Part Number: SMBJ16CA; Arrow Price/Stock: https://www.arrow.com/en/products/smbj16ca/bourns
footprint DIONM5436X261N
pins: 1, 2

## SMLVT3V3
designator D?, comment SMAJ5.0A-TR
Diode; Manufacturer_Name: STMicroelectronics; Manufacturer_Part_Number: SMLVT3V3; Allied_Number: 70013736; Datasheet Link: http://www.st.com/web/en/resource/technical/document/datasheet/CD00000923.pdf; Height: 2.65mm; Mouser Part Number: 511-SMLVT3V3; Mouser Price/Stock: https://www.mouser.com/Search/Refine.aspx?Keyword=511-SMLVT3V3; RS Part Number: 5444821P; RS Price/Stock: http://uk.rs-online.com/web/p/products/5444821P; Allied Price/Stock: http://www.alliedelec.com/stmicroelectronics-smlvt3v3/70013736/
footprint SMBJ36CATR
pins: 1 K, 2 A

## SS14
designator D?
Value: SS14
footprint DIO_1206
footprint SS14
pins: 1 K, 2 A

## SWR_TANDEM_MATCH
designator TSWR?  (value not drawn)
footprint SWR_DETECTOR_TANDEM_MATCH
footprint SWR_TANDEM_MATCH
pins: 1, 2, 3, 4, 5, 6, 7
text: IN; FRW; OUT; REF

## SWR_VHF
designator T?  (value not drawn)
Value: *
footprint SWR_VHF
pins: 1, 2, 3, 4, 5
text: IN; FRW; OUT; REF

## TRANSF_ACORE2
designator T?, comment 1:1
Value: 1:1
footprint ADT-TRANS-HYBRID
footprint TRANSF_ACORE2
pins: 1 S1, 2 S2, 3 S3, 4 P2, 6 P1, 7 0, 8 S2, 9 0, 10 0, 11 0

## TRANSF_ICORE
designator T?, comment 8T M2000HM 10*6*5  (value not drawn)
Transformer
footprint RF-OUT-TRANS
footprint TRANSF_ICORE
footprint Rutrof
pins: 1 P1, 2 P2, 3 S1, 4 S2

## TRANSF_ICORE_1
designator T?, comment TRANSF_ICORE  (value not drawn)
Value: *
footprint RF-OUT-TRANS
footprint TRANSF_ICORE
pins: 1 P1, 2 P2, 3 S1, 4 S2

## TRANSF_RF1
designator T?, comment TRANSF_HF1  (value not drawn)
Value: *
footprint TRANSF_HF1
pins: 1 P1, 2 P2, 3 S1, 4 S2, 5 S3

## TRANSF_RF2
designator T?, comment TRANSF_HF2  (value not drawn)
Value: *
footprint TRANSF_HF2
pins: 1 P1, 2 P2, 3 P3, 4 S1, 5 S2

## TRANSF_RF3
designator T?, comment TRANSF_HF3  (value not drawn)
Value: *
footprint TRANSF_HF3
pins: 1 S2, 2 S3, 3 S1, 4 P2, 5 P1

## ULN2003BDR
designator U?
Value: *
footprint ULN2003BDR
pins: 1 1B, 2 2B, 3 3B, 4 4B, 5 5B, 6 6B, 7 7B, 8 E, 9 COM, 10 7C, 11 6C, 12 5C, 13 4C, 14 3C, 15 2C, 16 1C